# EAGLE library part 74*138 (library 74xx-logic)
3-line to 8-line DECODER/DEMULTIPLEXER
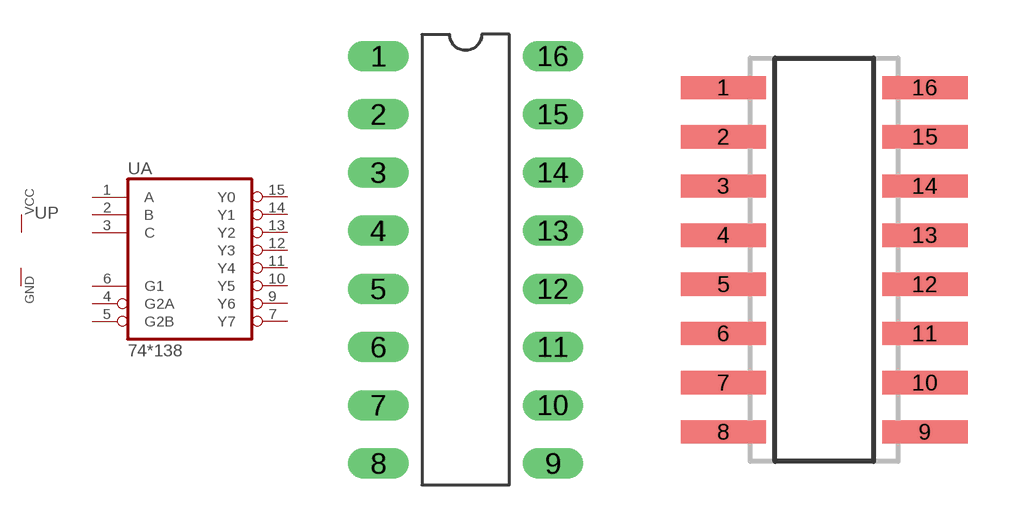
[diagram p0: symbol with the pads of DIL16; footprints DIL16, SO16]

Designator prefix U; gates A=74138 P=PWRN

## 74LS138N (P1I: o), 74S138N (P1I: o)  [DIL16]
1  A:A  in
2  A:B  in
3  A:C  in
4  A:G2A  in
5  A:G2B  in
6  A:G1  in
7  A:Y7  out
8  P:GND  pwr
9  A:Y6  out
10  A:Y5  out
11  A:Y4  out
12  A:Y3  out
13  A:Y2  out
14  A:Y1  out
15  A:Y0  out
16  P:VCC  pwr

## 74AHC138D (P1I: o), 74LS138D (P1I: o), 74S138D (P1I: o)  [SO16]
Pads as for DIL16

## 74LS138FK (P1I: o), 74S138FK (P1I: o)  [LCC20]
2  A:A  in
3  A:B  in
4  A:C  in
5  A:G2A  in
7  A:G2B  in
8  A:G1  in
9  A:Y7  out
10  P:GND  pwr
12  A:Y6  out
13  A:Y5  out
14  A:Y4  out
15  A:Y3  out
17  A:Y2  out
18  A:Y1  out
19  A:Y0  out
20  P:VCC  pwr

## 74138PW (P1I: o), 74AHC138PW (DIGIKEY: 568-7602-1-ND; P1I: o)  [TSSOP16]
Pads as for DIL16

## 74138DB (P1I: o)  [SSOP16]
Pads as for DIL16

## 74138NS (P1I: o)  [SOP16]
Pads as for DIL16

## Footprint DIL16 (pad centres in mm)
Dual In Line Package
drill 0.813 long: 1 -3.81,8.89; 2 -3.81,6.35; 3 -3.81,3.81; 4 -3.81,1.27; 5 -3.81,-1.27; 6 -3.81,-3.81; 7 -3.81,-6.35; 8 -3.81,-8.89; 9 3.81,-8.89; 10 3.81,-6.35; 11 3.81,-3.81; 12 3.81,-1.27; 13 3.81,1.27; 14 3.81,3.81; 15 3.81,6.35; 16 3.81,8.89

## Footprint SO16 (pad centres in mm)
SMALL OUTLINE INTEGRATED CIRCUIT body 3.9 mm/JEDEC MS-012AC
smd 2.2 x 0.6: 1 -2.6,4.445; 2 -2.6,3.175; 3 -2.6,1.905; 4 -2.6,0.635; 5 -2.6,-0.635; 6 -2.6,-1.905; 7 -2.6,-3.175; 8 -2.6,-4.445; 9 2.6,-4.445; 10 2.6,-3.175; 11 2.6,-1.905; 12 2.6,-0.635; 13 2.6,0.635; 14 2.6,1.905; 15 2.6,3.175; 16 2.6,4.445

## Footprint LCC20 (pad centres in mm)
Leadless Chip Carrier Ceramic Package
smd 0.8 x 3.4: 1 0,3.8
smd 0.8 x 2: 2 -1.27,4.5; 3 -2.54,4.5; 9 -2.54,-4.5; 10 -1.27,-4.5; 11 0,-4.5; 12 1.27,-4.5; 13 2.54,-4.5; 19 2.54,4.5; 20 1.27,4.5
smd 2 x 0.8: 4 -4.5,2.54; 5 -4.5,1.27; 6 -4.5,0; 7 -4.5,-1.27; 8 -4.5,-2.54; 14 4.5,-2.54; 15 4.5,-1.27; 16 4.5,0; 17 4.5,1.27; 18 4.5,2.54

## Footprint TSSOP16 (pad centres in mm)
Thin Shrink Small Outline Plastic 16
smd 1.1 x 0.31: 1 -3.08,2.275; 2 -3.08,1.625; 3 -3.08,0.975; 4 -3.08,0.325; 5 -3.08,-0.325; 6 -3.08,-0.975; 7 -3.08,-1.625; 8 -3.08,-2.275; 9 3.08,-2.275; 10 3.08,-1.625; 11 3.08,-0.975; 12 3.08,-0.325; 13 3.08,0.325; 14 3.08,0.975; 15 3.08,1.625; 16 3.08,2.275

## Footprint SSOP16 (pad centres in mm)
Shrink Small Outline Package package type SS
smd 1.5 x 0.4: 1 -3.575,2.275; 2 -3.575,1.625; 3 -3.575,0.975; 4 -3.575,0.325; 5 -3.575,-0.325; 6 -3.575,-0.975; 7 -3.575,-1.625; 8 -3.575,-2.275; 9 3.575,-2.275; 10 3.575,-1.625; 11 3.575,-0.975; 12 3.575,-0.325; 13 3.575,0.325; 14 3.575,0.975; 15 3.575,1.625; 16 3.575,2.275

## Footprint SOP16 (pad centres in mm)
SMALL OUTLINE PACKAGE
smd 2.2 x 0.6: 1 -3.6,4.445; 2 -3.6,3.175; 3 -3.6,1.905; 4 -3.6,0.635; 5 -3.6,-0.635; 6 -3.6,-1.905; 7 -3.6,-3.175; 8 -3.6,-4.445; 9 3.6,-4.445; 10 3.6,-3.175; 11 3.6,-1.905; 12 3.6,-0.635; 13 3.6,0.635; 14 3.6,1.905; 15 3.6,3.175; 16 3.6,4.445